# EAGLE library part LA1800 (library mita-akiba)
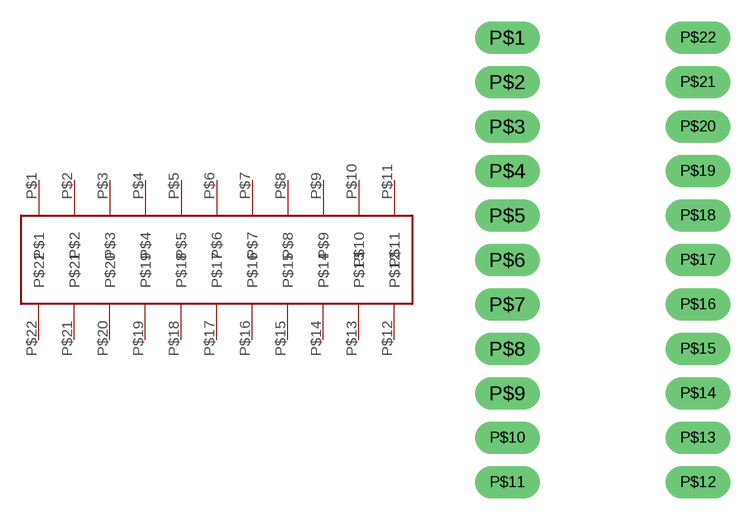
[diagram p26: symbol with the pads of DIP22S; footprint DIP22S]

Designator prefix -

## LA1800  [DIP22S]
P$1  P$1
P$2  P$2
P$3  P$3
P$4  P$4
P$5  P$5
P$6  P$6
P$7  P$7
P$8  P$8
P$9  P$9
P$10  P$10
P$11  P$11
P$12  P$12
P$13  P$13
P$14  P$14
P$15  P$15
P$16  P$16
P$17  P$17
P$18  P$18
P$19  P$19
P$20  P$20
P$21  P$21
P$22  P$22

## Footprint DIP22S (pad centres in mm)
drill 0.8 long: P$1 -3.81,8.9; P$2 -3.81,7.12; P$3 -3.81,5.34; P$4 -3.81,3.56; P$5 -3.81,1.78; P$6 -3.81,0; P$7 -3.81,-1.78; P$8 -3.81,-3.56; P$9 -3.81,-5.34; P$10 -3.81,-7.12; P$11 -3.81,-8.9; P$12 3.81,-8.9; P$13 3.81,-7.12; P$14 3.81,-5.34; P$15 3.81,-3.56; P$16 3.81,-1.78; P$17 3.81,0; P$18 3.81,1.78; P$19 3.81,3.56; P$20 3.81,5.34; P$21 3.81,7.12; P$22 3.81,8.9